# Altium schematic symbol library RESHyst2.SchLib: 1 symbol
Pins are listed as number, name and electrical type; pins without a type are passive.

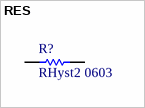
[diagram p0: symbol RES]

## RES
designator R?, comment RHyst2 0603
footprint CAPC0603(1608)100_M (Chip Capacitor, Body 1.6x0.8mm, Height 1.0mm, IPC Low Density)
pins: 1, 2
1 alternate drawing of the same symbol